# EAGLE library part AD8422BRMZ (library shepherd)
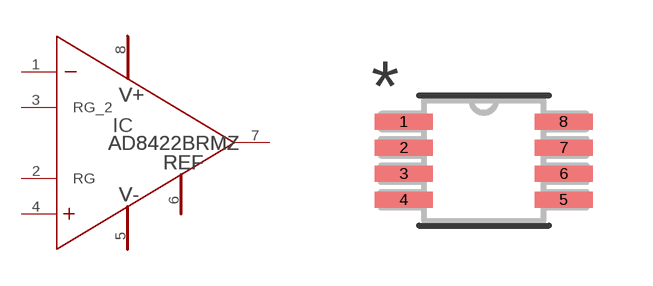
[diagram p26: symbol with the pads of RM_8-L; footprint RM_8-L]

Designator prefix IC

## AD8422BRMZ  [RM_8-L]
1  IN-  in
2  RG  pas
3  RG_2  pas
4  IN+  in
5  V-  pwr
6  REF  in
7  OUT  out
8  V+  pwr

## Footprint RM_8-L (pad centres in mm)
smd 1.456 x 0.4: 1 -1.999,0.975; 2 -1.999,0.325; 3 -1.999,-0.325; 4 -1.999,-0.975; 5 1.999,-0.975; 6 1.999,-0.325; 7 1.999,0.325; 8 1.999,0.975